# Altium footprint library Connectors.PcbLib: 3 footprints
Each footprint in its own frame and in the unit in brackets; x right, y up, seen from the top. Pads: shape width x height; smd on the part's side, far side on the other; paste and mask are expansions set on the pad; w line width, h text height; cw(c..) or ccw(c..) is an arc to the next point about the centre after c.
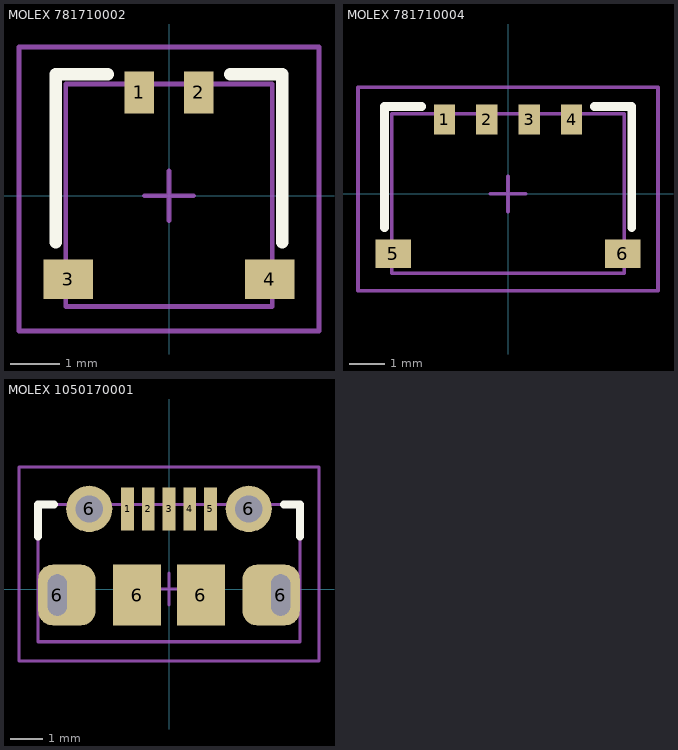
[diagram p0: the footprints below, top view; thin cyan lines are the x and y axes]

## MOLEX 781710002 [mm]
height 2.45
pads (4):
  rect 0.6x0.85 smd: 1(-0.6,2.1) 2(0.6,2.1)
  rect 1x0.8 smd: 3(-2.05,-1.7) 4(2.05,-1.7)
Top Overlay:
  lines w0.254: -2.3,-0.95 -2.3,2.475 -1.25,2.475 ; 1.25,2.475 2.3,2.475 2.3,-0.95
  text "." at -0.673,2.827 h1.52
Top Component Center:
  lines w0.1: -0.5,0 0.5,0 ; 0,-0.5 0,0.5
Top Component Outline:
  lines w0.1: -2.1,-2.25 2.1,-2.25 2.1,2.275 -2.1,2.275 -2.1,-2.25
Top Courtyard:
  lines w0.1: -3.05,-2.75 3.05,-2.75 3.05,3.025 -3.05,3.025 -3.05,-2.75
3D body "781710002.stp": height 1.45, standoff 0, extent -2.1,-2.25 2.1,2.28

## MOLEX 781710004 [mm]
height 2.45
pads (6):
  rect 0.6x0.85 smd: 1(-1.8,2.1) 2(-0.6,2.1) 3(0.6,2.1) 4(1.8,2.1)
  rect 1x0.8 smd: 5(-3.25,-1.7) 6(3.25,-1.7)
Top Overlay:
  lines w0.254: -3.503,-0.95 -3.503,2.475 -2.453,2.475 ; 2.456,2.475 3.506,2.475 3.506,-0.95
  text "." at -1.873,2.827 h1.52
Top Component Center:
  lines w0.1: -0.5,0 0.5,0 ; 0,-0.5 0,0.5
Top Component Outline:
  lines w0.1: -3.3,-2.25 3.3,-2.25 3.3,2.275 -3.3,2.275 -3.3,-2.25
Top Courtyard:
  lines w0.1: -4.25,-2.75 4.25,-2.75 4.25,3.025 -4.25,3.025 -4.25,-2.75
3D body "781710004.stp": height 1.45, standoff 0, extent -3.3,-2.25 3.3,2.28

## MOLEX 1050170001 [mm]
height 2.45
pads (11):
  rect 0.4x1.35 smd: 1(-1.3,2.515) 2(-0.65,2.515) 3(0,2.515) 4(0.65,2.515) 5(1.3,2.515)
  rrect50% 1.8x1.9 hole 0.6 slot 1.3 at 90 deg copper offset 0.3,0: 6(-3.5,-0.185)
  round 1.45 hole 0.85: 6(-2.5,2.515) 6(2.5,2.515)
  rect 1.5x1.9 smd: 6(-1,-0.185) 6(1,-0.185)
  rrect50% 1.8x1.9 hole 0.6 slot 1.3 at 90 deg copper offset -0.3,0: 6(3.5,-0.185)
Top Overlay:
  lines w0.254: -4.1,1.65 -4.1,2.65 -3.6,2.65 ; 3.6,2.65 4.1,2.65 4.1,1.65
  text "." at -1.373,3.527 h1.52
Top Component Center:
  lines w0.1: -0.5,0 0.5,0 ; 0,-0.5 0,0.5
Top Component Outline:
  lines w0.1: -4.1,-1.65 4.1,-1.65 4.1,2.65 -4.1,2.65 -4.1,-1.65
Top Courtyard:
  lines w0.1: -4.7,-2.25 4.7,-2.25 4.7,3.825 -4.7,3.825 -4.7,-2.25
3D body "1050170001.stp": height 2.7, standoff -0.6, extent -4.1,-2.75 4.1,2.65